# EAGLE library part LTC4627 (library AWJLEagleLib)
Lite-On LTC-4627JR common anode 7 segment display
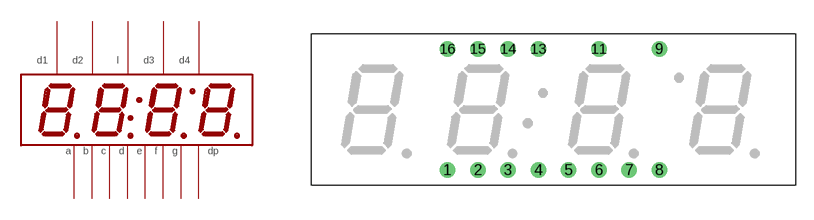
[diagram p22: symbol with the pads of LTC4627; footprint LTC4627]

Designator prefix LED

## LTC4627  [LTC4627]
1  D1
2  D2
3  D
4  L
5  E
6  D3
7  DP
8  D4
11  F
13  C
14  A
15  G
16  B

## Footprint LTC4627 (pad centres in mm)
drill 0.8: 1 -8.89,-5.08; 2 -6.35,-5.08; 3 -3.81,-5.08; 4 -1.27,-5.08; 5 1.27,-5.08; 6 3.81,-5.08; 7 6.35,-5.08; 8 8.89,-5.08; 9 8.89,5.08; 11 3.81,5.08; 13 -1.27,5.08; 14 -3.81,5.08; 15 -6.35,5.08; 16 -8.89,5.08